# Altium schematic symbol library 库.SchLib: 7 symbols
Pins are listed as number, name and electrical type; pins without a type are passive.

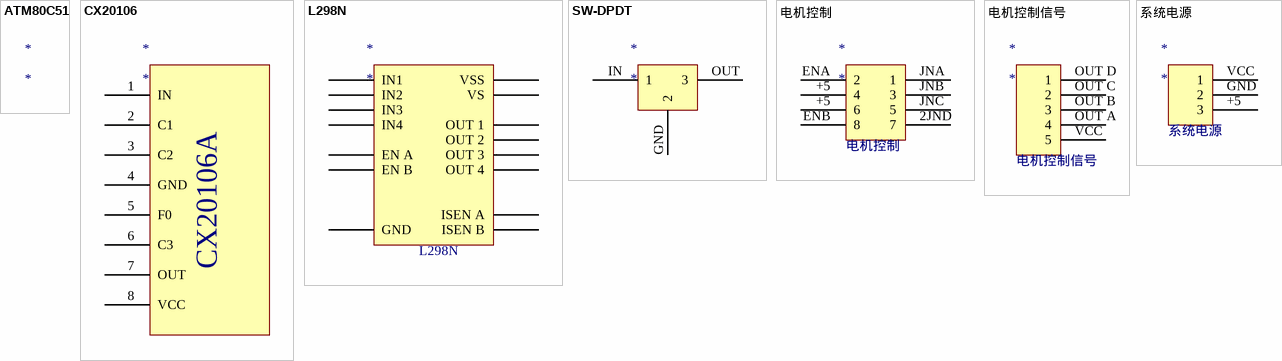
[diagram p0: symbols ATM80C51 to 系统电源]

## ATM80C51
designator *

## CX20106
designator *
pins: 1 IN, 2 C1, 3 C2, 4 GND, 5 F0, 6 C3, 7 OUT, 8 VCC
text: CX20106A

## L298N
designator *
pins: EN A, EN B, GND, IN1, IN2, IN3, IN4, ISEN A, ISEN B, OUT4 OUT 4, OUT 1, OUT 2, OUT 3, VS, VSS

## SW-DPDT
designator *
pins: GND 2, IN 1, OUT 3

## 电机控制
designator *
pins: 2JND 7, +5 6, +5 4, ENA 2, ENB 8, JNA 1, JNB 3, JNC 5

## 电机控制信号
designator *
pins: OUT A 4, OUT B 3, OUT C 2, OUT D 1, VCC 5

## 系统电源
designator *
pins: +5 3, GND 2, VCC 1